# EAGLE library part AIC161X (library IC)
AIC1610/AIC1611 Datasheet:http://www.enroo.com/uploaddir/download/pdf/aicpdf1/AICguige/AIC1610.pdf
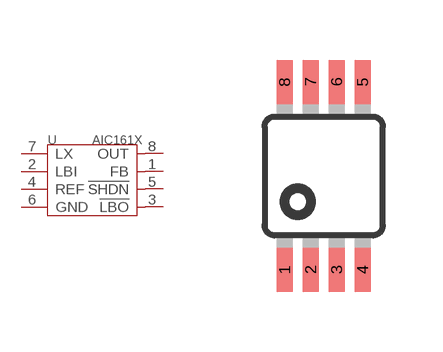
[diagram p9: symbol with the pads of MSOP8; footprint MSOP8]

Designator prefix U

## AIC161X-MSOP8  [MSOP8]
1  FB
2  LBI
3  !LBO
4  REF
5  !SHDN
6  GND
7  LX
8  OUT

## Footprint MSOP8 (pad centres in mm)
8M, 8-Lead, 0.118" Wide, Miniature Small Outline Package MSOP 8M-Package doc1097.pdf
smd 0.4 x 1.1: 1 -0.975,-2.35; 2 -0.325,-2.35; 3 0.325,-2.35; 4 0.975,-2.35; 5 0.975,2.35; 6 0.325,2.35; 7 -0.325,2.35; 8 -0.975,2.35